# EAGLE library part LM3S8938 (library stellaris)
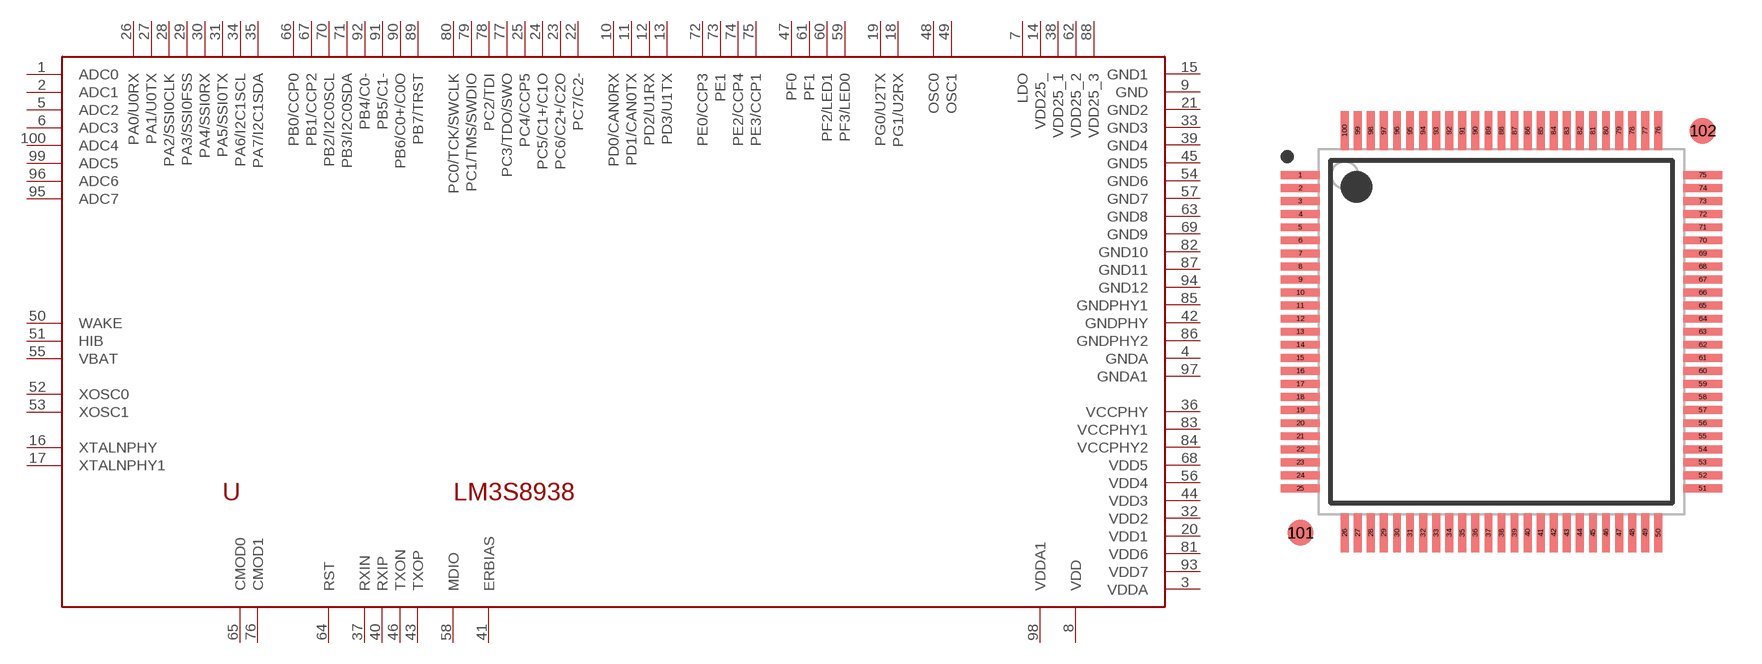
[diagram p0: symbol with the pads of QFP50P1600X1600X160-100N; footprint QFP50P1600X1600X160-100N]

Designator prefix -

## LM3S8938  [QFP50P1600X1600X160-100N]
1  ADC0  in
2  ADC1  in
3  VDDA  pwr
4  GNDA  pwr
5  ADC2  in
6  ADC3  in
7  LDO  pwr
8  VDD  pwr
9  GND  pwr
10  PD0/CAN0RX
11  PD1/CAN0TX
12  PD2/U1RX
13  PD3/U1TX
14  VDD25_  pwr
15  GND1  pwr
16  XTALNPHY  out
17  XTALNPHY1  in
18  PG1/U2RX
19  PG0/U2TX
20  VDD1  pwr
21  GND2  pwr
22  PC7/C2-
23  PC6/C2+/C2O
24  PC5/C1+/C1O
25  PC4/CCP5
26  PA0/U0RX
27  PA1/U0TX
28  PA2/SSI0CLK
29  PA3/SSI0FSS
30  PA4/SSI0RX
31  PA5/SSI0TX
32  VDD2  pwr
33  GND3  pwr
34  PA6/I2C1SCL
35  PA7/I2C1SDA
36  VCCPHY  pwr
37  RXIN  in
38  VDD25_1  pwr
39  GND4  pwr
40  RXIP  in
41  ERBIAS  in
42  GNDPHY  pwr
43  TXOP  out
44  VDD3  pwr
45  GND5  pwr
46  TXON  out
47  PF0
48  OSC0  in
49  OSC1  out
50  WAKE  in
51  HIB  out
52  XOSC0  in
53  XOSC1  out
54  GND6  pwr
55  VBAT  pwr
56  VDD4  pwr
57  GND7  pwr
58  MDIO
59  PF3/LED0
60  PF2/LED1
61  PF1
62  VDD25_2  pwr
63  GND8  pwr
64  RST  in
65  CMOD0  in
66  PB0/CCP0
67  PB1/CCP2
68  VDD5  pwr
69  GND9  pwr
70  PB2/I2C0SCL
71  PB3/I2C0SDA
72  PE0/CCP3
73  PE1
74  PE2/CCP4
75  PE3/CCP1
76  CMOD1  in
77  PC3/TDO/SWO
78  PC2/TDI
79  PC1/TMS/SWDIO
80  PC0/TCK/SWCLK
81  VDD6  pwr
82  GND10  pwr
83  VCCPHY1  pwr
84  VCCPHY2  pwr
85  GNDPHY1  pwr
86  GNDPHY2  pwr
87  GND11  pwr
88  VDD25_3  pwr
89  PB7/TRST
90  PB6/C0+/C0O
91  PB5/C1-
92  PB4/C0-
93  VDD7  pwr
94  GND12  pwr
95  ADC7  in
96  ADC6  in
97  GNDA1  pwr
98  VDDA1  pwr
99  ADC5  in
100  ADC4  in

## Footprint QFP50P1600X1600X160-100N (pad centres in mm)
PCB Libraries Package
smd 1.5 x 0.3: 1 -7.7,6; 2 -7.7,5.5; 3 -7.7,5; 4 -7.7,4.5; 5 -7.7,4; 6 -7.7,3.5; 7 -7.7,3; 8 -7.7,2.5; 9 -7.7,2; 10 -7.7,1.5; 11 -7.7,1; 12 -7.7,0.5; 13 -7.7,0; 14 -7.7,-0.5; 15 -7.7,-1; 16 -7.7,-1.5; 17 -7.7,-2; 18 -7.7,-2.5; 19 -7.7,-3; 20 -7.7,-3.5; 21 -7.7,-4; 22 -7.7,-4.5; 23 -7.7,-5; 24 -7.7,-5.5; 25 -7.7,-6; 51 7.7,-6; 52 7.7,-5.5; 53 7.7,-5; 54 7.7,-4.5; 55 7.7,-4; 56 7.7,-3.5; 57 7.7,-3; 58 7.7,-2.5; 59 7.7,-2; 60 7.7,-1.5; 61 7.7,-1; 62 7.7,-0.5; 63 7.7,0; 64 7.7,0.5; 65 7.7,1; 66 7.7,1.5; 67 7.7,2; 68 7.7,2.5; 69 7.7,3; 70 7.7,3.5; 71 7.7,4; 72 7.7,4.5; 73 7.7,5; 74 7.7,5.5; 75 7.7,6
smd 0.3 x 1.5: 26 -6,-7.7; 27 -5.5,-7.7; 28 -5,-7.7; 29 -4.5,-7.7; 30 -4,-7.7; 31 -3.5,-7.7; 32 -3,-7.7; 33 -2.5,-7.7; 34 -2,-7.7; 35 -1.5,-7.7; 36 -1,-7.7; 37 -0.5,-7.7; 38 0,-7.7; 39 0.5,-7.7; 40 1,-7.7; 41 1.5,-7.7; 42 2,-7.7; 43 2.5,-7.7; 44 3,-7.7; 45 3.5,-7.7; 46 4,-7.7; 47 4.5,-7.7; 48 5,-7.7; 49 5.5,-7.7; 50 6,-7.7; 76 6,7.7; 77 5.5,7.7; 78 5,7.7; 79 4.5,7.7; 80 4,7.7; 81 3.5,7.7; 82 3,7.7; 83 2.5,7.7; 84 2,7.7; 85 1.5,7.7; 86 1,7.7; 87 0.5,7.7; 88 0,7.7; 89 -0.5,7.7; 90 -1,7.7; 91 -1.5,7.7; 92 -2,7.7; 93 -2.5,7.7; 94 -3,7.7; 95 -3.5,7.7; 96 -4,7.7; 97 -4.5,7.7; 98 -5,7.7; 99 -5.5,7.7; 100 -6,7.7
smd 1 x 1: 101 -7.7,-7.7; 102 7.7,7.7